# Altium schematic symbol library SCH - POWER - LINEAR VREG - TI LP2952-ND.SchLib: 1 symbol
Pins are listed as number, name and electrical type; pins without a type are passive.

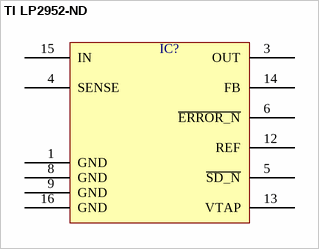
[diagram p0: symbol TI LP2952-ND]

## TI LP2952-ND
designator IC?  (value not drawn)
pins: 1 GND, 3 OUT, 4 SENSE, 5 ~{SD_N}, 6 ~{ERROR_N}, 8 GND, 9 GND, 12 REF, 13 VTAP, 14 FB, 15 IN, 16 GND